# Altium footprint library PJ114AHSMTTR.PcbLib: 1 footprints
Each footprint in its own frame and in the unit in brackets; x right, y up, seen from the top. Pads: shape width x height; smd on the part's side, far side on the other; paste and mask are expansions set on the pad; w line width, h text height; cw(c..) or ccw(c..) is an arc to the next point about the centre after c.
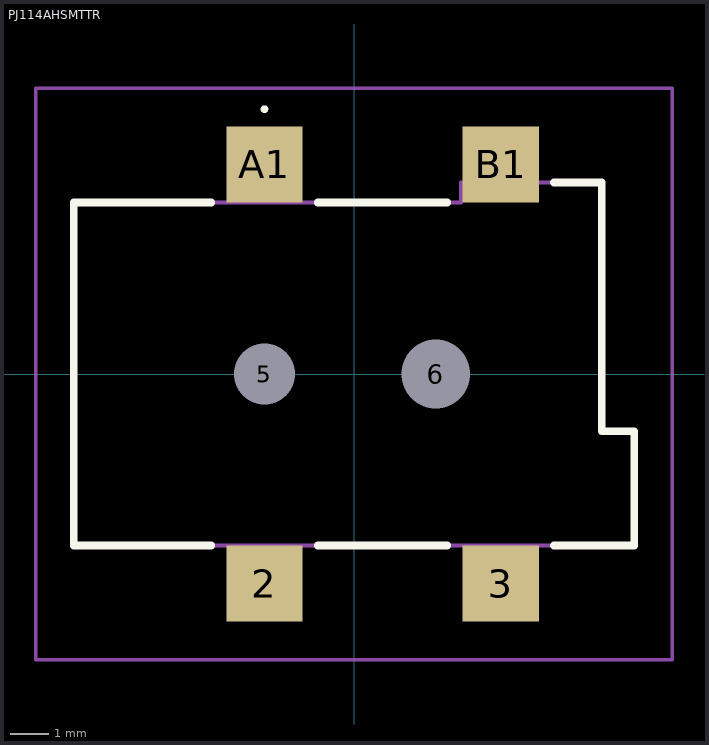
[diagram p0: the footprint, top view; thin cyan lines are the x and y axes]

## PJ114AHSMTTR [mm]
pads (6):
  rect 2x2 smd: 2(-2.35,-5.5) 3(3.85,-5.5) A1(-2.35,5.5) B1(3.85,5.5)
  round 0.8 hole 1.6 unplated: 5(-2.35,0)
  round 0.9 hole 1.8 unplated: 6(2.15,0)
Top Overlay:
  lines w0.1: -2.35,6.9 cw(c-2.35,6.95) -2.35,7 ; -2.35,6.9 -2.35,6.9 ; -2.35,6.9 ccw(c-2.35,6.95) -2.35,7 ; -2.35,7 -2.35,7
  lines w0.2: -3.75,-4.5 -7.35,-4.5 -7.35,4.5 -3.75,4.5 ; -0.95,-4.5 2.45,-4.5 ; -0.95,4.5 2.45,4.5 ; 5.25,-4.5 7.35,-4.5 7.35,-1.5 6.499,-1.5 6.499,5.027 5.25,5.027
Mechanical 15:
  lines w0.1: -7.35,-4.5 -7.35,0 -7.35,4.5 2.81,4.5 2.81,5.027 6.499,5.027 6.499,-1.5 7.35,-1.5 7.35,-4.5 -7.35,-4.5
Mechanical 20:
  lines w0.1: -8.35,-7.5 8.35,-7.5 8.35,7.5 -8.35,7.5 -8.35,-7.5